# Altium schematic symbol library BluePill.SchLib: 1 symbol
Pins are listed as number, name and electrical type; pins without a type are passive.

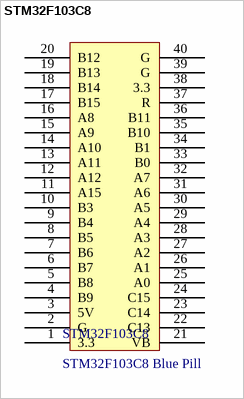
[diagram p0: symbol STM32F103C8]

## STM32F103C8
designator STM32F103C8, comment STM32F103C8 Blue Pill
footprint STM32F103C8 (Blue Pill STM32F103C8)
pins: 1 3.3, 2 G, 3 5V, 4 B9, 5 B8, 6 B7, 7 B6, 8 B5, 9 B4, 10 B3, 11 A15, 12 A12, 13 A11, 14 A10, 15 A9, 16 A8, 17 B15, 18 B14, 19 B13, 20 B12, 21 VB, 22 C13, 23 C14, 24 C15, 25 A0, 26 A1, 27 A2, 28 A3, 29 A4, 30 A5, 31 A6, 32 A7, 33 B0, 34 B1, 35 B10, 36 B11, 37 R, 38 3.3, 39 G, 40 G